# Altium schematic symbol library BTB24-600BWRG.SchLib: 1 symbol
Pins are listed as number, name and electrical type; pins without a type are passive.

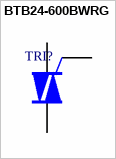
[diagram p0: symbol BTB24-600BWRG]

## BTB24-600BWRG
designator TRI?
pins: A1, A2, G